# Altium schematic symbol library Diodes.SchLib: 15 symbols
Pins are listed as number, name and electrical type; pins without a type are passive.

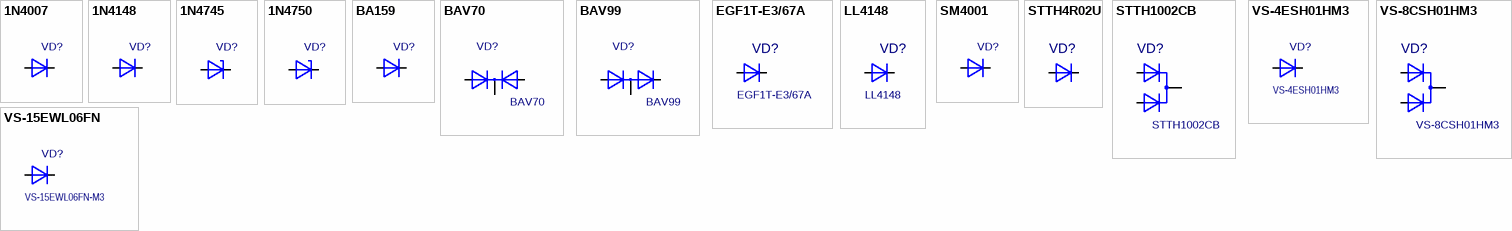
[diagram p0: symbols 1N4007 to VS-15EWL06FN]

## 1N4007
designator VD?  (value not drawn)
1N4007; Value: *; Part Field 1: *
footprint DO-41
pins: 1, 2

## 1N4148
designator VD?  (value not drawn)
1N4148; Value: *
footprint DO-41
pins: 1, 2

## 1N4745
designator VD?  (value not drawn)
Docum: аА0.336.162ТУ-85; Value: *
footprint DO-41
pins: 1, 2

## 1N4750
designator VD?  (value not drawn)
Docum: аА0.336.162ТУ-85; Value: *
footprint DO-41
pins: 1, 2

## BA159
designator VD?  (value not drawn)
BA159; Value: *
footprint 7_7+1
footprint 7_7+2
footprint 7_7+3
footprint 7_7-1
footprint 7_7-2
footprint 7_7k
footprint 7_7v
footprint 7_Primary
pins: 1, 2

## BAV70
designator VD?
Value: *
footprint SOT-23
pins: 1 A, 2 K, 3 C

## BAV99
designator VD?
Value: *
footprint SOT-23
pins: 1 A, 2 K, 3 C

## EGF1T-E3/67A
designator VD?
Value: *
footprint DO-214BA GF1
pins: 1, 2

## LL4148
designator VD?
Value: *
footprint SOD-80 (DO-213AC)
pins: 1, 2

## SM4001
designator VD?  (value not drawn)
SM4001; Value: *
footprint DO-213AB
pins: 1, 2

## STTH4R02U
designator VD?  (value not drawn)
footprint DO-214AA SMB
pins: 1, 2

## STTH1002CB
designator VD?
High efficiency ultrafast diode 2x8 A, 200V, 175 °C, 0.78V, 20ns; Value: *
footprint D-PAK (TO-252)
pins: 1 A1, 2 A2, 3 K

## VS-4ESH01HM3
designator VD?
Hyperfast Rectifier, 4 A FRED Pt®, 100V 4A 175 °C; Value: *
footprint SMPC (TO-277A) SINGLE
pins: 1 A, 3 C

## VS-8CSH01HM3
designator VD?
Hyperfast Rectifier 2x4A, 100V, 175 °C, 0.72V, 25ns; Value: *
footprint SMPC (TO-277A) DUAL
pins: 1 A1, 2 A2, 3 K

## VS-15EWL06FN
designator VD?, comment VS-15EWL06FN-M3
Ultralow VF Ultrafast Rectifier, 600V 15A 175 °C; Value: *
footprint D-PAK (TO-252) single diode
pins: 1, 3